# EAGLE library part LTC3806 (library PowerProducts)
Synchronous Flyback DC/DC Controller
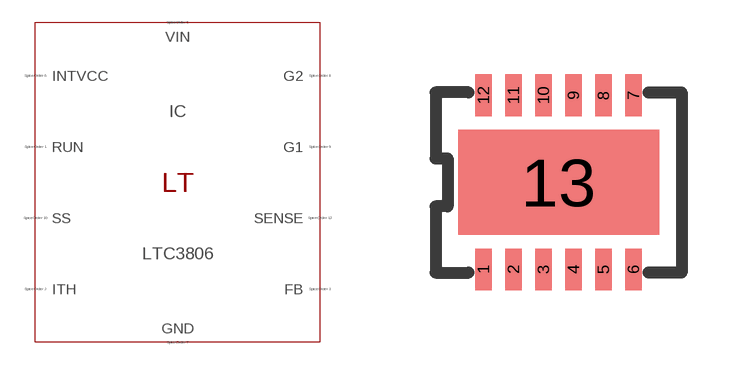
[diagram p337: symbol with the pads of DFN12(DE); footprint DFN12(DE)]

Designator prefix IC

## LTC3806 (SPICEMODEL: LTC3806.sub; SPICEPREFIX: X; VALUE2: LTC3806)  [DFN12(DE)]
1  RUN  pas
2  ITH  pas
3  FB  pas
5  VIN  pas
6  INTVCC  pas
7  GND  pas
8  G2  pas
9  G1  pas
10  SS  pas
12  SENSE  pas
13  GND  pas

## Footprint DFN12(DE) (pad centres in mm)
Package generated from: DFN12(DE).asc (!PADS-POWERPCB-V5.0-BASIC! DESIGN DATABASE ASCII FILE 1.0) with :import-pads-powerpcb-v5.ulp Version 1.0.1 at 04.10.2012 14:11:16
smd 0.42 x 1.05: 1 -1.875,-2.175; 2 -1.125,-2.175; 3 -0.375,-2.175; 4 0.375,-2.175; 5 1.125,-2.175; 6 1.875,-2.175; 7 1.875,2.175; 8 1.125,2.175; 9 0.375,2.175; 10 -0.375,2.175; 11 -1.125,2.175; 12 -1.875,2.175
smd 5.025 x 2.625: 13 0,0